# Altium schematic symbol library 833H-1C-F-S-24VDC.SchLib: 1 symbol
Pins are listed as number, name and electrical type; pins without a type are passive.

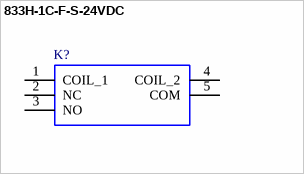
[diagram p0: symbol 833H-1C-F-S-24VDC]

## 833H-1C-F-S-24VDC
designator K?
General Purpose Relays 10A, General Purpose Relay; Manufacturer_Name: Song Chuan; Geometry.Height: 15.5mm; Manufacturer_Part_Number: 833H-1C-F-S-24VDC; Mouser Part Number: 893-833H1CFS24VDC; Mouser Price/Stock: https://www.mouser.com/Search/Refine.aspx?Keyword=893-833H1CFS24VDC; Arrow Part Number: *; Arrow Price/Stock: *; Mouser Testing Part Number: *; Mouser Testing Price/Stock: *; Datasheet Link: https://componentsearchengine.com/Datasheets/1/833H-1C-F-S-24VDC.pdf
footprint 833H1CFS24VDC
pins: 1 COIL_1, 2 NC, 3 NO, 4 COIL_2, 5 COM